# Altium footprint library MicroController_DevBoard.PcbLib: 1 footprints
Each footprint in its own frame and in the unit in brackets; x right, y up, seen from the top. Pads: shape width x height; smd on the part's side, far side on the other; paste and mask are expansions set on the pad; w line width, h text height; cw(c..) or ccw(c..) is an arc to the next point about the centre after c.
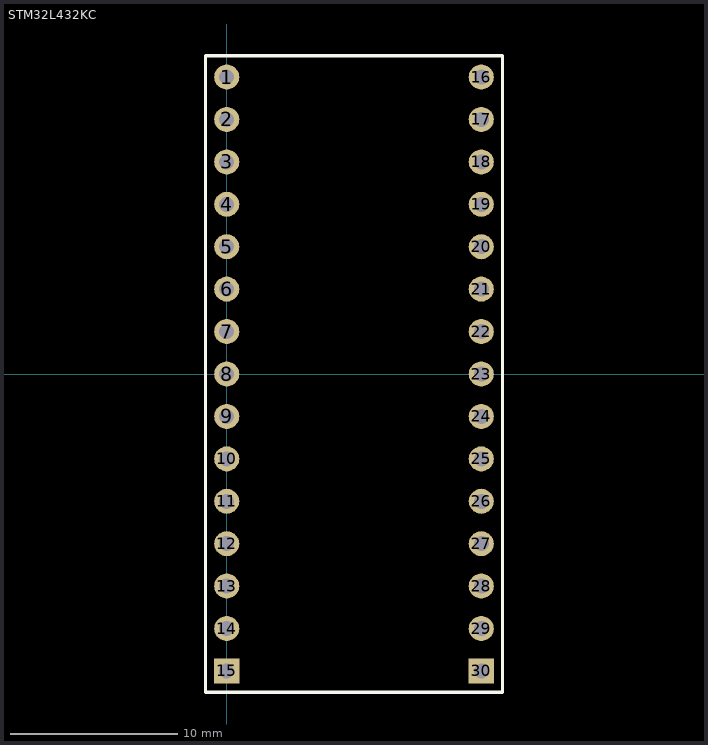
[diagram p0: the footprint, top view; thin cyan lines are the x and y axes]

## STM32L432KC [mm] "NUCLEO-L432KC DevBoard"
height 0.127
pads (30):
  round 1.5 hole 0.9: 1(0,17.78) 2(0,15.24) 3(0,12.7) 4(0,10.16) 5(0,7.62) 6(0,5.08) 7(0,2.54) 8(0,0) 9(0,-2.54) 10(0,-5.08) 11(0,-7.62) 12(0,-10.16) 13(0,-12.7) 14(0,-15.24) 16(15.24,17.78) 17(15.24,15.24) 18(15.24,12.7) 19(15.24,10.16) 20(15.24,7.62) 21(15.24,5.08) 22(15.24,2.54) 23(15.24,0) 24(15.24,-2.54) 25(15.24,-5.08) 26(15.24,-7.62) 27(15.24,-10.16) 28(15.24,-12.7) 29(15.24,-15.24)
  rect 1.5x1.5 hole 0.9: 15(0,-17.78) 30(15.24,-17.78)
Top Overlay:
  lines w0.2: 13.97,-19.05 16.51,-19.05 16.51,19.05 13.97,19.05 ; 14.097,-19.05 -1.27,-19.05 -1.27,-17.145 -1.27,19.05 14.097,19.05